# Altium schematic symbol library REF30xx.SchLib: 1 symbol
Pins are listed as number, name and electrical type; pins without a type are passive.

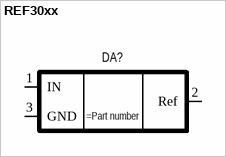
[diagram p0: symbol REF30xx]

## REF30xx
designator DA?
0-ppm/°C Max, 50-μA, CMOS Voltage Reference in SOT-23-3
pins: 1 IN, 2 Ref, 3 GND